# Altium footprint library Holes.PcbLib: 1 footprints
Each footprint in its own frame and in the unit in brackets; x right, y up, seen from the top. Pads: shape width x height; smd on the part's side, far side on the other; paste and mask are expansions set on the pad; w line width, h text height; cw(c..) or ccw(c..) is an arc to the next point about the centre after c.
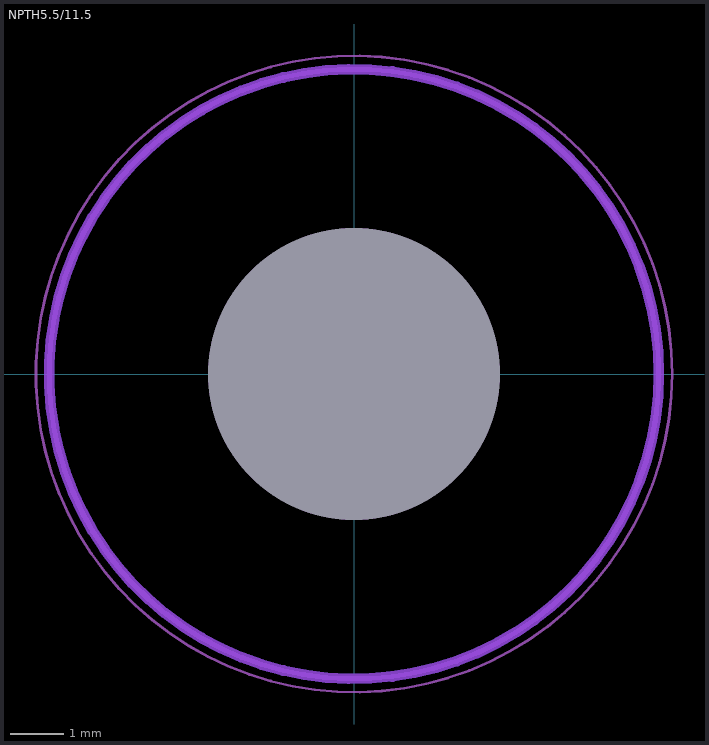
[diagram p0: the footprint, top view; thin cyan lines are the x and y axes]

## NPTH5.5/11.5 [mm] "5.5mm diameter hole, 11.5mm soldermask opening"
pads (1):
  round 0 hole 5.5 unplated paste-0.025 mask+3: ""(0,0)
Top Layer keep-out:
  circle w0.2: c0,0 r5.75
Bottom Layer keep-out:
  circle w0.2: c0,0 r5.75
Mechanical 6:
  text "'.Designator'" at -1.375,-0.275 h0.6
Mechanical 8:
  circle w2.75: c0,0 r1.375
  circle w0.05: c0,0 r6.001
Mechanical 9:
  circle w0.05: c0,0 r6.001
  circle w2.75: c0,0 r1.375
Mechanical 13:
  circle w2.75: c0,0 r1.375
  circle w0.1: c0,0 r5.75
Mechanical 14:
  circle w0.1: c0,0 r5.75
  circle w2.75: c0,0 r1.375
Mechanical 15:
  circle w0.05: c0,0 r6
  lines w0.1: -0.75,0 0,0 ; 0,-0.75 0,0 ; 0,0.75 0,0 ; 0.75,0 0,0